# EAGLE library part SLA-05VDC-SL-C (library bontor)
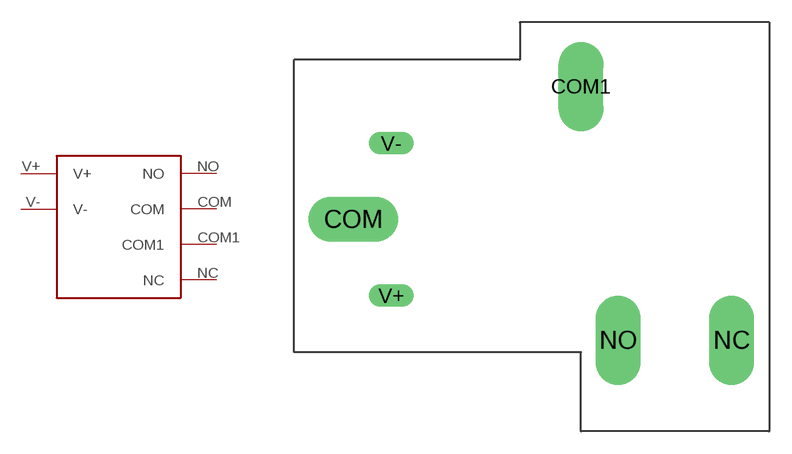
[diagram p14: symbol with the pads of SONGLE-SLA; footprint SONGLE-SLA]

Designator prefix -

## SLA-05VDC-SL-C  [SONGLE-SLA]
COM  COM
COM1  COM1
NC  NC
NO  NO
V+  V+
V-  V-

## Footprint SONGLE-SLA (pad centres in mm)
drill 2 long: COM -11.94,0.5; COM1 3.3,9.4; NC 13.4,-7.6; NO 5.8,-7.6
drill 1 long: V+ -9.4,-4.6; V- -9.4,5.6